# Altium footprint library IC-SMD.PCBLIB: 298 footprints (part 11 of 19)
Each footprint in its own frame and in the unit in brackets; x right, y up, seen from the top. Pads: shape width x height; smd on the part's side, far side on the other; paste and mask are expansions set on the pad; w line width, h text height; cw(c..) or ccw(c..) is an arc to the next point about the centre after c.
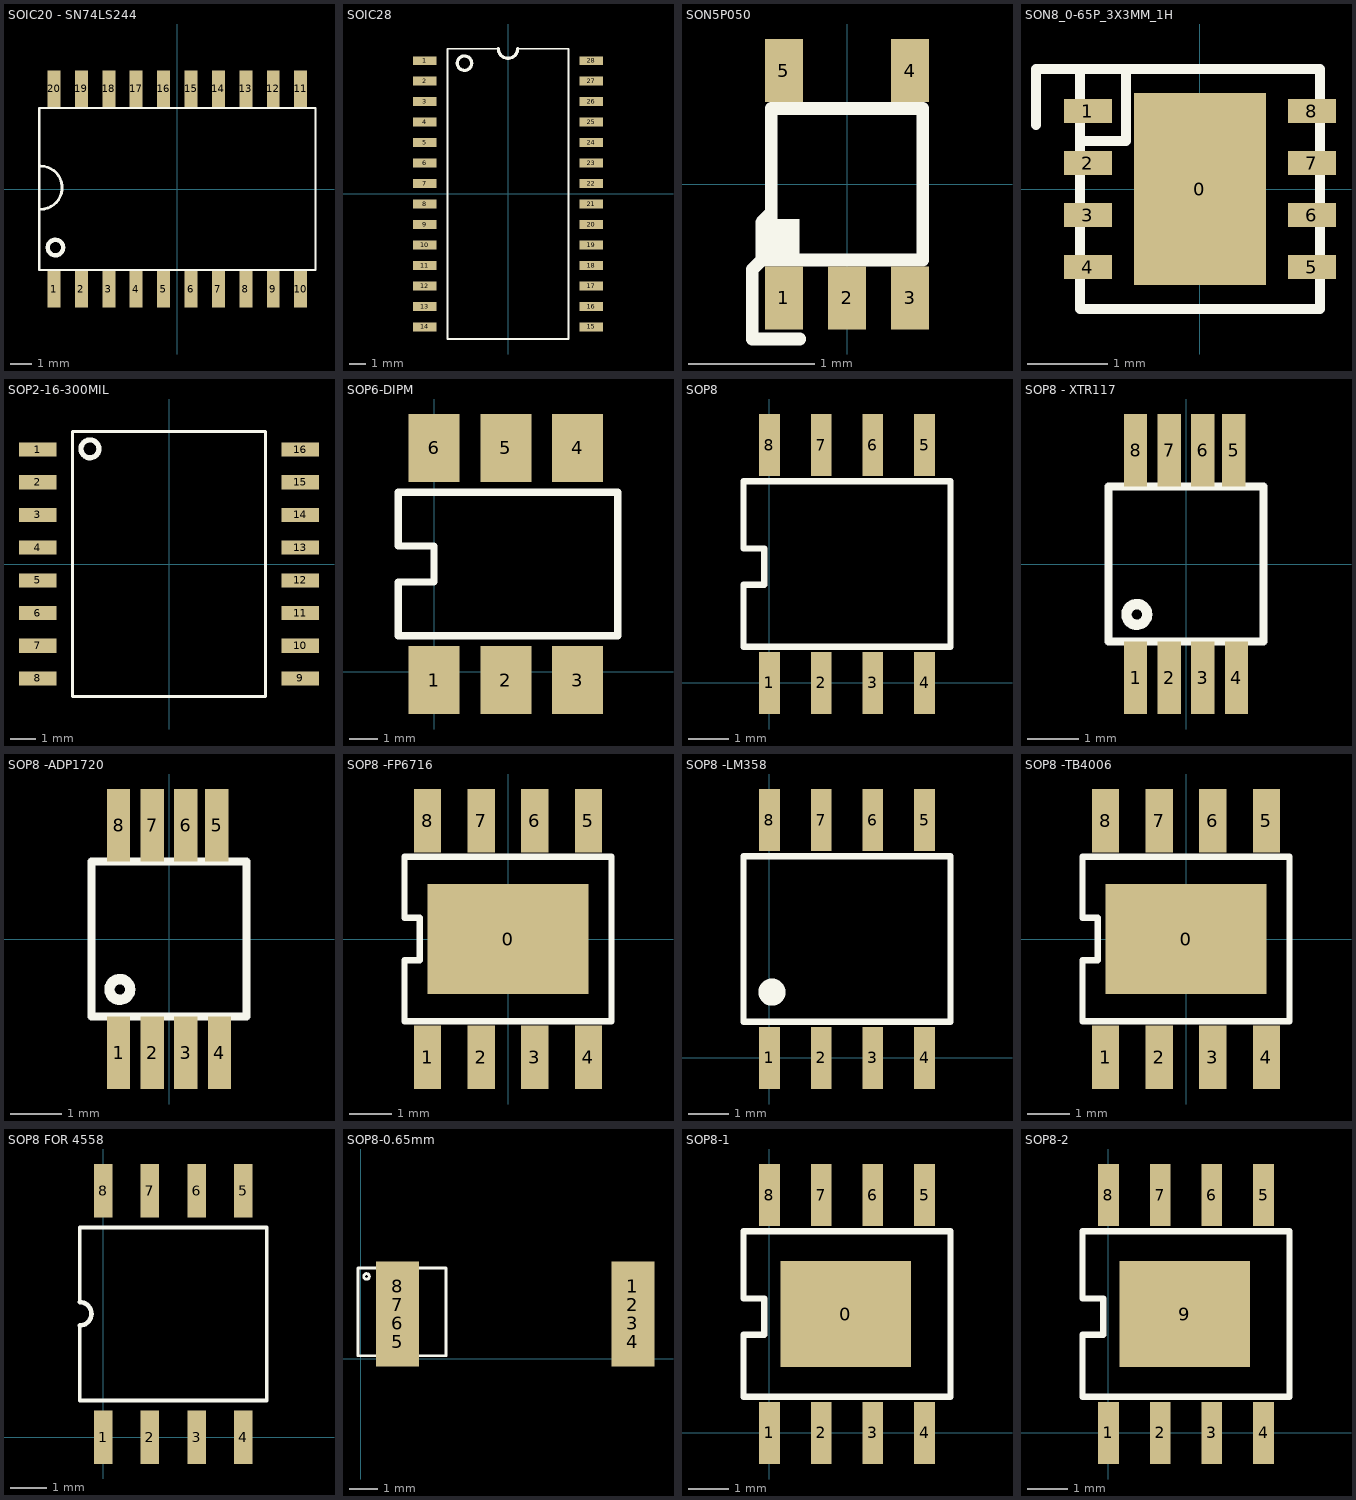
[diagram p10: the footprints below, top view; thin cyan lines are the x and y axes]

## SOIC20 - SN74LS244 [mm] "SOIC20 - SN74LS244"
pads (20):
  rect 0.6x1.7 smd: 1(-5.715,-4.65) 2(-4.445,-4.65) 3(-3.175,-4.65) 4(-1.905,-4.65) 5(-0.635,-4.65) 6(0.635,-4.65) 7(1.905,-4.65) 8(3.175,-4.65) 9(4.445,-4.65) 10(5.715,-4.65) 11(5.715,4.65) 12(4.445,4.65) 13(3.175,4.65) 14(1.905,4.65) 15(0.635,4.65) 16(-0.635,4.65) 17(-1.905,4.65) 18(-3.175,4.65) 19(-4.445,4.65) 20(-5.715,4.65)
TopOverlay:
  circle w0.2: c-5.649,-2.712 r0.359
  lines w0.1: -6.4,-3.75 6.4,-3.75 6.4,3.75 -6.4,3.75 -6.4,-3.75
  lines w0.127: -6.337,-0.937 ccw(c-6.337,0.064) -6.337,1.064

## SOIC28 [mm]
pads (28):
  rect 1.45x0.55 smd: 1(-5.15,8.255) 2(-5.15,6.985) 3(-5.15,5.715) 4(-5.15,4.445) 5(-5.15,3.175) 6(-5.15,1.905) 7(-5.15,0.635) 8(-5.15,-0.635) 9(-5.15,-1.905) 10(-5.15,-3.175) 11(-5.15,-4.445) 12(-5.15,-5.715) 13(-5.15,-6.985) 14(-5.15,-8.255) 15(5.15,-8.255) 16(5.15,-6.985) 17(5.15,-5.715) 18(5.15,-4.445) 19(5.15,-3.175) 20(5.15,-1.905) 21(5.15,-0.635) 22(5.15,0.635) 23(5.15,1.905) 24(5.15,3.175) 25(5.15,4.445) 26(5.15,5.715) 27(5.15,6.985) 28(5.15,8.255)
TopOverlay:
  circle w0.2: c-2.7,8.1 r0.447
  lines w0.1: -0.6,9 -3.75,9 -3.75,-9 3.75,-9 3.75,9 0.6,9
  lines w0.2: -0.6,9 ccw(c0,9) 0.6,9

## SON5P050 [mm]
pads (5):
  rect 0.3x0.5 smd: 1(-0.5,-0.9) 2(0,-0.9) 3(0.5,-0.9) 4(0.5,0.9) 5(-0.5,0.9)
TopOverlay:
  rectangle: -0.6,-0.6 -0.375,-0.275
  lines w0.1: -0.6,-0.225 -0.675,-0.3 -0.675,-0.6 ; -0.375,-1.225 -0.75,-1.225 -0.75,-0.675 -0.675,-0.6 ; -0.675,-0.6 -0.6,-0.6 ; -0.6,-0.6 -0.6,0.6 0.6,0.6 0.6,-0.6 -0.6,-0.6

## SON8_0-65P_3X3MM_1H [mm] "SON8_0-65P_3X3MM_1H"
pads (9):
  rect 1.65x2.4 smd mask+0.05: 0(0,0)
  rect 0.6x0.3 smd mask+0.07: 1(-1.4,0.975) 2(-1.4,0.325) 3(-1.4,-0.325) 4(-1.4,-0.975) 5(1.4,-0.975) 6(1.4,-0.325) 7(1.4,0.325) 8(1.4,0.975)
TopOverlay:
  lines w0.127: -2.05,0.8 -2.05,1.5 -1.5,1.5 ; -1.5,0.6 -0.925,0.6 -0.925,1.5 ; -1.5,1.5 -1.5,-1.5 1.5,-1.5 1.5,1.5 -1.5,1.5

## SOP2-16-300MIL [mm] "SOP2-16-300MIL"
pads (16):
  rect 1.45x0.55 smd: 1(-5.105,4.445) 2(-5.105,3.175) 3(-5.105,1.905) 4(-5.105,0.635) 5(-5.105,-0.635) 6(-5.105,-1.905) 7(-5.105,-3.175) 8(-5.105,-4.445) 9(5.105,-4.445) 10(5.105,-3.175) 11(5.105,-1.905) 12(5.105,-0.635) 13(5.105,0.635) 14(5.105,1.905) 15(5.105,3.175) 16(5.105,4.445)
TopOverlay:
  circle w0.2: c-3.072,4.475 r0.347
  lines w0.1: -3.75,-5.15 3.75,-5.15 3.75,5.15 -3.75,5.15 -3.75,-5.15

## SOP6-DIPM [mm]
pads (6):
  rect 1.8x2.4 smd: 1(0,-0.3) 2(2.54,-0.3) 3(5.08,-0.3) 4(5.08,7.92) 5(2.54,7.92) 6(0,7.92)
TopOverlay:
  lines w0.254: 6.5,1.27 -1.27,1.27 -1.27,3.175 0,3.175 0,4.445 -1.27,4.445 -1.27,6.35 6.5,6.35 6.5,1.3

## SOP8 [mil]
pads (8):
  rect 20x60 smd: 1(0,0) 2(50,0) 3(100,0) 4(150,0) 5(150,230) 6(100,230) 7(50,230) 8(0,230)
TopOverlay:
  lines w6: -25,35 -25,95 -5,95 -5,130 -25,130 -25,195 175,195 175,35 -25,35

## SOP8 - XTR117 [mm] "SOP8 - XTR117"
pads (8):
  rect 0.45x1.4 smd: 1(-0.975,-2.2) 2(-0.325,-2.2) 3(0.325,-2.2) 4(0.975,-2.2) 5(0.925,2.2) 6(0.325,2.2) 7(-0.325,2.2) 8(-0.975,2.2)
TopOverlay:
  circle w0.2: c-0.95,-0.975 r0.2
  lines w0.152: -1.5,-1.5 1.5,-1.5 1.5,1.5 -1.5,1.5 -1.5,-1.5

## SOP8 -ADP1720 [mm] "SOP8 -ADP1720"
pads (8):
  rect 0.45x1.4 smd: 1(-0.975,-2.2) 2(-0.325,-2.2) 3(0.325,-2.2) 4(0.975,-2.2) 5(0.925,2.2) 6(0.325,2.2) 7(-0.325,2.2) 8(-0.975,2.2)
TopOverlay:
  circle w0.2: c-0.95,-0.975 r0.2
  lines w0.152: -1.5,-1.5 1.5,-1.5 1.5,1.5 -1.5,1.5 -1.5,-1.5

## SOP8 -FP6716 [mm] "SOP8 -FP6716"
pads (9):
  rect 3.81x2.6 smd: 0(0,0)
  rect 0.65x1.5 smd: 1(-1.905,-2.8) 2(-0.635,-2.8) 3(0.635,-2.8) 4(1.905,-2.8) 5(1.905,2.8) 6(0.635,2.8) 7(-0.635,2.8) 8(-1.905,2.8)
TopOverlay:
  lines w0.152: -2.45,-1.95 2.45,-1.95 2.45,1.95 -2.45,1.95 -2.45,0.5 -2.092,0.5 -2.092,-0.5 -2.45,-0.5 -2.45,-1.95

## SOP8 -LM358 [mil] "SOP8 -LM358"
pads (8):
  rect 20x60 smd: 1(0,0) 2(50,0) 3(100,0) 4(150,0) 5(150,230) 6(100,230) 7(50,230) 8(0,230)
TopOverlay:
  circle w19.68: c2.43,63.66 r3.24
  lines w6: -25,35 -25,95 -25,130 -25,195 175,195 175,35 -25,35

## SOP8 -TB4006 [mm] "SOP8 -TB4006"
pads (9):
  rect 3.81x2.6 smd: 0(0,0)
  rect 0.65x1.5 smd: 1(-1.905,-2.8) 2(-0.635,-2.8) 3(0.635,-2.8) 4(1.905,-2.8) 5(1.905,2.8) 6(0.635,2.8) 7(-0.635,2.8) 8(-1.905,2.8)
TopOverlay:
  lines w0.152: -2.45,-1.95 -2.45,-0.5 -2.092,-0.5 -2.092,0.5 -2.45,0.5 -2.45,1.95 2.45,1.95 2.45,-1.95 -2.45,-1.95

## SOP8 FOR 4558 [mm]
pads (8):
  rect 0.5x1.45 smd: 1(0,0) 2(1.27,0) 3(2.54,0) 4(3.81,0) 5(3.81,6.7) 6(2.54,6.7) 7(1.27,6.7) 8(0,6.7)
TopOverlay:
  lines w0.1: -0.635,3 -0.635,1 4.445,1 4.445,5.7 -0.635,5.7 -0.635,3.7
  lines w0.127: -0.635,3.036 ccw(c-0.639,3.356) -0.634,3.676

## SOP8-0.65mm [mm] "SOP8-0.65mm"
pads (8):
  rect 1.52x1.77 smd: 1(9.6,2.55) 2(9.6,1.9) 3(9.6,1.25) 4(9.6,0.6) 5(1.3,0.6) 6(1.3,1.25) 7(1.3,1.9) 8(1.3,2.55)
TopOverlay:
  circle w0.1: c0.2,2.9 r0.1
  lines w0.1: -0.1,0.1 3,0.1 3,3.2 -0.1,3.2 -0.1,0.1

## SOP8-1 [mil]
pads (9):
  rect 125.98x102.36 smd: 0(73.79,115)
  rect 20x60 smd: 1(0,0) 2(50,0) 3(100,0) 4(150,0) 5(150,230) 6(100,230) 7(50,230) 8(0,230)
TopOverlay:
  lines w6: -25,35 175,35 175,195 -25,195 -25,130 -5,130 -5,95 -25,95 -25,35

## SOP8-2 [mil]
pads (9):
  rect 20x60 smd: 1(0,0) 2(50,0) 3(100,0) 4(150,0) 5(150,230) 6(100,230) 7(50,230) 8(0,230)
  rect 125.98x102.36 smd: 9(73.79,115)
TopOverlay:
  lines w6: -25,35 175,35 175,195 -25,195 -25,130 -5,130 -5,95 -25,95 -25,35